# EAGLE library part ATTINY45 (library LITTLEBITS140826)
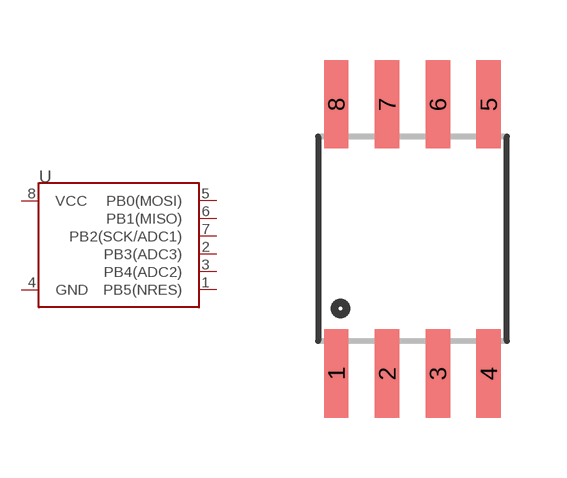
[diagram p16: symbol with the pads of SO08-EIAJ; footprint SO08-EIAJ]

Designator prefix -

## ATTINY45  [SO08-EIAJ]
1  PB5(NRES)
2  PB3(ADC3)
3  PB4(ADC2)
4  GND
5  PB0(MOSI)
6  PB1(MISO)
7  PB2(SCK/ADC1)
8  VCC

## Footprint SO08-EIAJ (pad centres in mm)
smd 0.61 x 2.21: 1 -1.905,-3.378; 2 -0.635,-3.378; 3 0.635,-3.378; 4 1.905,-3.378; 5 1.905,3.353; 6 0.635,3.353; 7 -0.635,3.353; 8 -1.905,3.353